# Altium schematic symbol library ICs.SchLib: 34 symbols
Pins are listed as number, name and electrical type; pins without a type are passive.

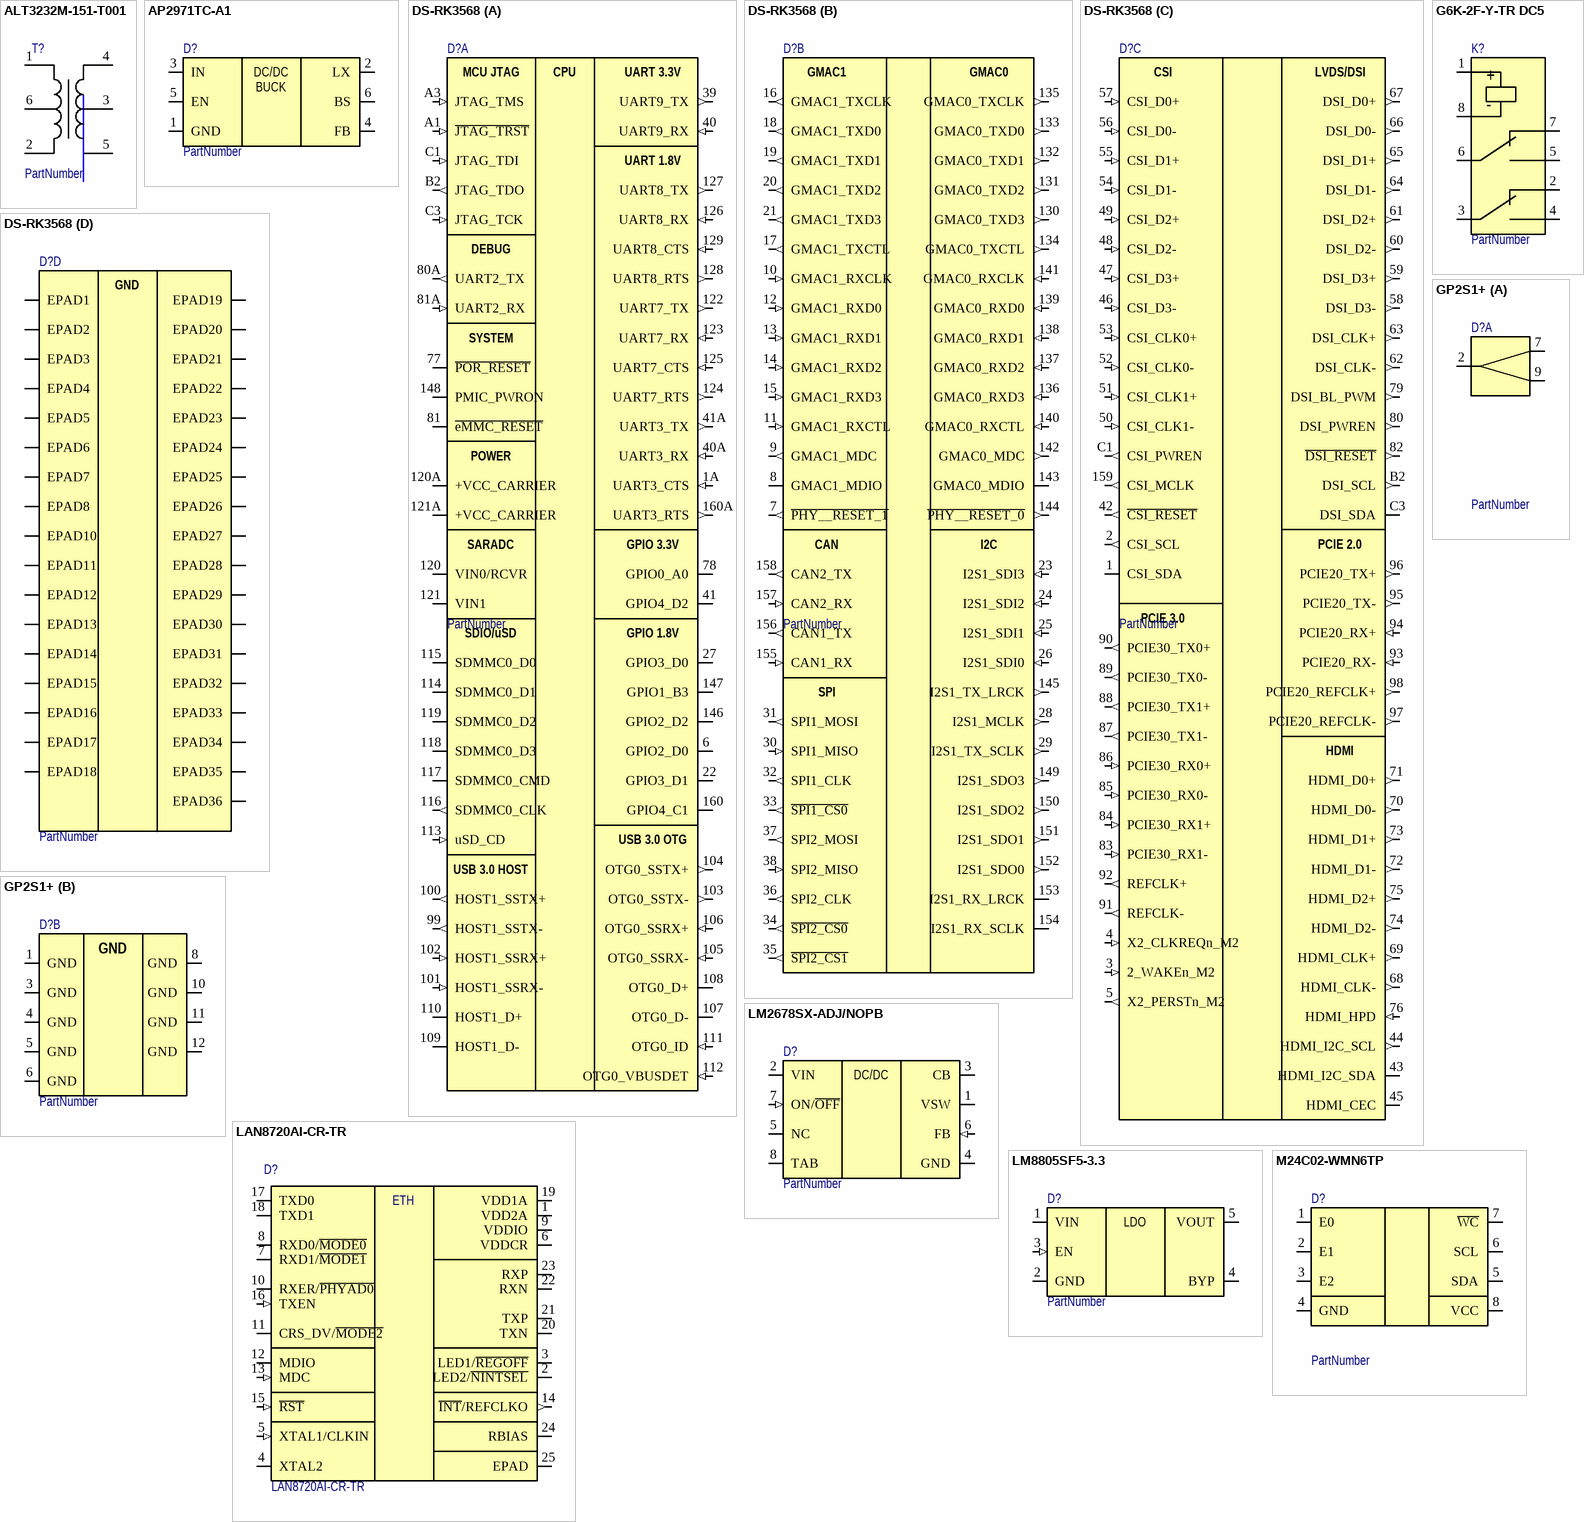
[diagram p0: symbols ALT3232M-151-T001 to M24C02-WMN6TP]

## ALT3232M-151-T001
designator T?  (value not drawn)
PartNumber: PartNumber
pins: 1, 2, 3, 4, 5, 6

## AP2971TC-A1
designator D?  (value not drawn)
PartNumber: PartNumber
pins: 1 GND, 2 LX, 3 IN, 4 FB, 5 EN, 6 BS
text: DC/DC; BUCK

## DS-RK3568
designator D?  (value not drawn)
PartNumber: PartNumber
part A pins: 1A UART3_CTS (in), 6 GPIO2_D0 (io), 22 GPIO3_D1 (io), 27 GPIO3_D0 (io), 39 UART9_TX (out), 40 UART9_RX (in), 40A UART3_RX (in), 41 GPIO4_D2 (io), 41A UART3_TX (out), 77 ~{POR_RESET}, 78 GPIO0_A0 (io), 80A UART2_TX (out), 81 ~{eMMC_RESET}, 81A UART2_RX (in), 99 HOST1_SSTX- (out), 100 HOST1_SSTX+ (out), 101 HOST1_SSRX- (in), 102 HOST1_SSRX+ (in), 103 OTG0_SSTX- (out), 104 OTG0_SSTX+ (out), 105 OTG0_SSRX- (in), 106 OTG0_SSRX+ (in), 107 OTG0_D- (io), 108 OTG0_D+ (io), 109 HOST1_D- (io), 110 HOST1_D+ (io), 111 OTG0_ID (in), 112 OTG0_VBUSDET (in), 113 uSD_CD (in), 114 SDMMC0_D1 (io), 115 SDMMC0_D0 (io), 116 SDMMC0_CLK (out), 117 SDMMC0_CMD (io), 118 SDMMC0_D3 (io), 119 SDMMC0_D2 (io), 120 VIN0/RCVR, 120A +VCC_CARRIER (power), 121 VIN1, 121A +VCC_CARRIER (power), 122 UART7_TX (out), 123 UART7_RX (in), 124 UART7_RTS (out), 125 UART7_CTS (in), 126 UART8_RX (in), 127 UART8_TX (out), 128 UART8_RTS (out), 129 UART8_CTS (in), 146 GPIO2_D2 (io), 147 GPIO1_B3 (io), 148 PMIC_PWRON, 160 GPIO4_C1 (io), 160A UART3_RTS (out), A1 ~{JTAG_TRST} (in), A3 JTAG_TMS (in), B2 JTAG_TDO (out), C1 JTAG_TDI (in), C3 JTAG_TCK (in)
part B pins: 7 ~{PHY__RESET_1} (out), 8 GMAC1_MDIO (io), 9 GMAC1_MDC (out), 10 GMAC1_RXCLK (in), 11 GMAC1_RXCTL (in), 12 GMAC1_RXD0 (in), 13 GMAC1_RXD1 (in), 14 GMAC1_RXD2 (in), 15 GMAC1_RXD3 (in), 16 GMAC1_TXCLK (out), 17 GMAC1_TXCTL (out), 18 GMAC1_TXD0 (out), 19 GMAC1_TXD1 (out), 20 GMAC1_TXD2 (out), 21 GMAC1_TXD3 (out), 23 I2S1_SDI3 (in), 24 I2S1_SDI2 (in), 25 I2S1_SDI1 (in), 26 I2S1_SDI0 (in), 28 I2S1_MCLK (out), 29 I2S1_TX_SCLK (out), 30 SPI1_MISO (in), 31 SPI1_MOSI (out), 32 SPI1_CLK (out), 33 ~{SPI1_CS0} (out), 34 ~{SPI2_CS0} (out), 35 ~{SPI2_CS1} (out), 36 SPI2_CLK (out), 37 SPI2_MOSI (out), 38 SPI2_MISO (in), 130 GMAC0_TXD3 (out), 131 GMAC0_TXD2 (out), 132 GMAC0_TXD1 (out), 133 GMAC0_TXD0 (out), 134 GMAC0_TXCTL (out), 135 GMAC0_TXCLK (out), 136 GMAC0_RXD3 (in), 137 GMAC0_RXD2 (in), 138 GMAC0_RXD1 (in), 139 GMAC0_RXD0 (in), 140 GMAC0_RXCTL (in), 141 GMAC0_RXCLK (in), 142 GMAC0_MDC (out), 143 GMAC0_MDIO (io), 144 ~{PHY__RESET_0} (out), 145 I2S1_TX_LRCK (out), 149 I2S1_SDO3 (out), 150 I2S1_SDO2 (out), 151 I2S1_SDO1 (out), 152 I2S1_SDO0 (out), 153 I2S1_RX_LRCK, 154 I2S1_RX_SCLK, 155 CAN1_RX (in), 156 CAN1_TX (out), 157 CAN2_RX (in), 158 CAN2_TX (out)
part C pins: 1 CSI_SDA (io), 2 CSI_SCL (out), 3 2_WAKEn_M2 (in), 4 X2_CLKREQn_M2 (in), 5 X2_PERSTn_M2 (out), 42 ~{CSI_RESET} (out), 43 HDMI_I2C_SDA (io), 44 HDMI_I2C_SCL (out), 45 HDMI_CEC (io), 46 CSI_D3- (in), 47 CSI_D3+ (in), 48 CSI_D2- (in), 49 CSI_D2+ (in), 50 CSI_CLK1- (in), 51 CSI_CLK1+ (in), 52 CSI_CLK0- (in), 53 CSI_CLK0+ (in), 54 CSI_D1- (in), 55 CSI_D1+ (in), 56 CSI_D0- (in), 57 CSI_D0+ (in), 58 DSI_D3- (out), 59 DSI_D3+ (out), 60 DSI_D2- (out), 61 DSI_D2+ (out), 62 DSI_CLK- (out), 63 DSI_CLK+ (out), 64 DSI_D1- (out), 65 DSI_D1+ (out), 66 DSI_D0- (out), 67 DSI_D0+ (out), 68 HDMI_CLK- (out), 69 HDMI_CLK+ (out), 70 HDMI_D0- (out), 71 HDMI_D0+ (out), 72 HDMI_D1- (out), 73 HDMI_D1+ (out), 74 HDMI_D2- (out), 75 HDMI_D2+ (out), 76 HDMI_HPD (in), 79 DSI_BL_PWM (out), 80 DSI_PWREN (out), 82 ~{DSI_RESET} (out), 83 PCIE30_RX1- (in), 84 PCIE30_RX1+ (in), 85 PCIE30_RX0- (in), 86 PCIE30_RX0+ (in), 87 PCIE30_TX1- (out), 88 PCIE30_TX1+ (out), 89 PCIE30_TX0- (out), 90 PCIE30_TX0+ (out), 91 REFCLK- (out), 92 REFCLK+ (out), 93 PCIE20_RX- (in), 94 PCIE20_RX+ (in), 95 PCIE20_TX- (out), 96 PCIE20_TX+ (out), 97 PCIE20_REFCLK- (out), 98 PCIE20_REFCLK+ (out), 159 CSI_MCLK (out), B2 DSI_SCL (out), C1 CSI_PWREN (out), C3 DSI_SDA (io)
part D pins: 161 EPAD1 (power), 161 EPAD2 (power), 161 EPAD3 (power), 161 EPAD4 (power), 161 EPAD5 (power), 161 EPAD6 (power), 161 EPAD7 (power), 161 EPAD8 (power), 161 EPAD10 (power), 161 EPAD11 (power), 161 EPAD12 (power), 161 EPAD13 (power), 162 EPAD14 (power), 163 EPAD15 (power), 164 EPAD16 (power), 165 EPAD17 (power), 166 EPAD18 (power), 167 EPAD19 (power), 168 EPAD20 (power), 169 EPAD21 (power), 170 EPAD22 (power), 171 EPAD23 (power), 172 EPAD24 (power), 173 EPAD25 (power), 174 EPAD26 (power), 175 EPAD27 (power), 176 EPAD28 (power), 177 EPAD29 (power), 178 EPAD30 (power), 179 EPAD31 (power), 180 EPAD32 (power), 181 EPAD33 (power), 182 EPAD34 (power), 183 EPAD35 (power), 184 EPAD36 (power)
part A text: MCU JTAG; CPU; UART 3.3V; UART 1.8V; DEBUG; SYSTEM; POWER; SARADC; GPIO 3.3V; SDIO/uSD; GPIO 1.8V; USB 3.0 OTG; USB 3.0 HOST
part B text: GMAC1; GMAC0; CAN; I2C; SPI
part C text: CSI; LVDS/DSI; PCIE 2.0; PCIE 3.0; HDMI
part D text: GND

## G6K-2F-Y-TR DC5
designator K?  (value not drawn)
PartNumber: PartNumber
pins: 1 +, 2, 3, 4, 5, 6, 7, 8 -

## GP2S1+
designator D?  (value not drawn)
PartNumber: PartNumber
part A pins: 2 Port SUM, 7 Port 1, 9 Port 2
part B pins: 1 GND (power), 3 GND (power), 4 GND (power), 5 GND (power), 6 GND (power), 8 GND (power), 10 GND (power), 11 GND (power), 12 GND (power)

## LAN8720AI-CR-TR
designator D?
pins: 1 VDD2A (power) "+3.3V Analog Port Power to Channel 2 and the internal regulator.", 2 LED2/~{NINTSEL} (io), 3 LED1/~{REGOFF} (io), 4 XTAL2 "External crystal output", 5 XTAL1/CLKIN (in), 6 VDDCR (power) "Supplied by the on-chip regulator unless configured for regulator off mode via the REGOFF configuration strap.", 7 RXD1/~{MODE1} (io), 8 RXD0/~{MODE0} (io), 9 VDDIO (power) "+1.6V to +3.6V variable I/O power", 10 RXER/~{PHYAD0} (io), 11 CRS_DV/~{MODE2} (io), 12 MDIO (io) "Serial Management Interface data input/output", 13 MDC (in) "Serial Management Interface clock", 14 ~{INT}/REFCLKO (out), 15 ~{RST} (in) "System reset. This signal is active low.", 16 TXEN (in) "Indicates that valid transmission data is presenton TXD[1:0].", 17 TXD0 (io) "The MAC transmits data to the transceiver usingthis signal.", 18 TXD1 (io) "The MAC transmits data to the transceiver usingthis signal.", 19 VDD1A (power) "+3.3V Analog Port Power to Channel 1", 20 TXN (io) "Transmit/Receive Negative Channel 1", 21 TXP (io) "Transmit/Receive Positive Channel 1", 22 RXN (io) "Transmit/Receive Negative Channel 2", 23 RXP (io) "Transmit/Receive Positive Channel 2", 24 RBIAS "This pin requires connection of a 12.1k ohm (1%) resistor to ground.", 25 EPAD (power) "Exposed pad (VSS) on bottom of package must be connected to ground"
text: ETH

## LM2678SX-ADJ/NOPB
designator D?  (value not drawn)
PartNumber: PartNumber
pins: 1 VSW (power), 2 VIN (power), 3 CB, 4 GND (power), 5 NC, 6 FB (in), 7 ON/~{OFF} (in), 8 TAB (power)
text: DC/DC

## LM8805SF5-3.3
designator D?  (value not drawn)
PartNumber: PartNumber
pins: 1 VIN (power), 2 GND (power), 3 EN (in), 4 BYP (power), 5 VOUT (power)
text: LDO

## M24C02-WMN6TP
designator D?  (value not drawn)
PartNumber: PartNumber
pins: 1 E0, 2 E1, 3 E2, 4 GND, 5 SDA, 6 SCL, 7 ~{WC}, 8 VCC

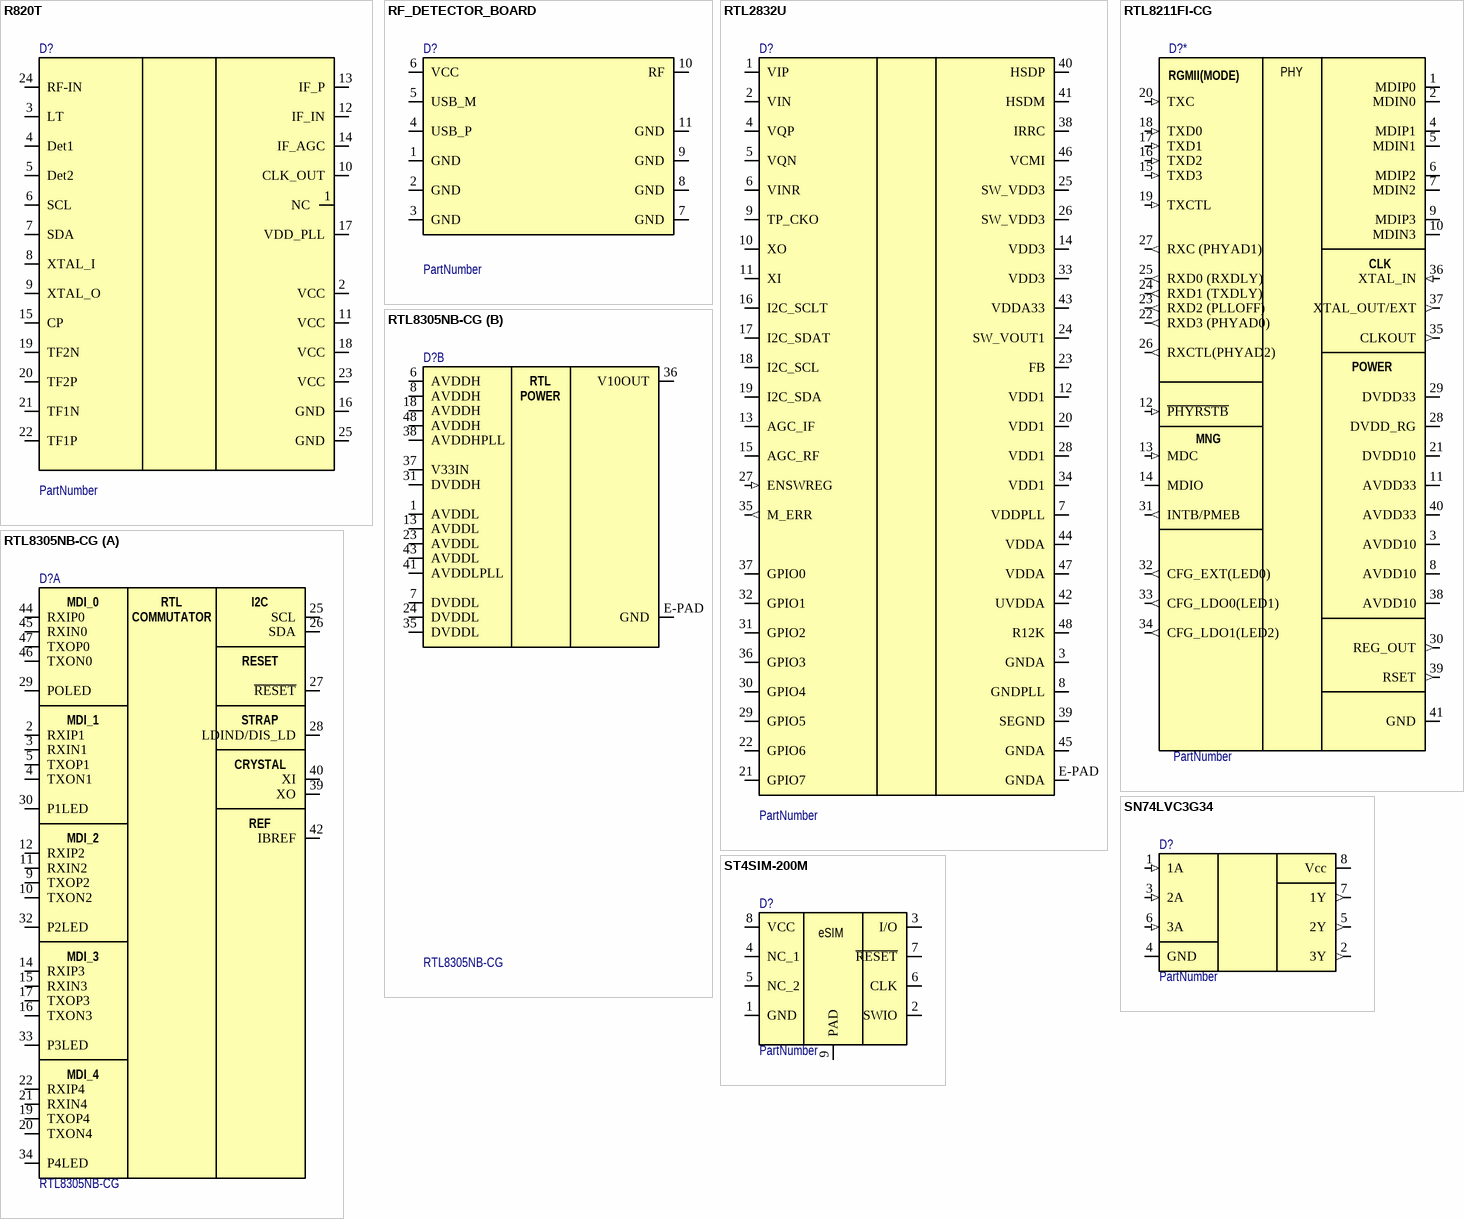
[diagram p1: symbols R820T to ST4SIM-200M]

## R820T
designator D?  (value not drawn)
PartNumber: PartNumber
pins: 1 NC (hiz), 2 VCC (power), 3 LT, 4 Det1, 5 Det2, 6 SCL (io), 7 SDA (io), 8 XTAL_I, 9 XTAL_O, 10 CLK_OUT, 11 VCC (power), 12 IF_IN, 13 IF_P, 14 IF_AGC, 15 CP, 16 GND (power), 17 VDD_PLL (power), 18 VCC (power), 19 TF2N, 20 TF2P, 21 TF1N, 22 TF1P, 23 VCC (power), 24 RF-IN, 25 GND (power)

## RF_DETECTOR_BOARD
designator D?  (value not drawn)
PartNumber: PartNumber
pins: 1 GND (power), 2 GND (power), 3 GND (power), 4 USB_P, 5 USB_M, 6 VCC (power), 7 GND (power), 8 GND (power), 9 GND (power), 10 RF, 11 GND (power)

## RTL2832U
designator D?  (value not drawn)
PartNumber: PartNumber
pins: 1 VIP, 2 VIN, 3 GNDA (power), 4 VQP, 5 VQN, 6 VINR, 7 VDDPLL (power), 8 GNDPLL (power), 9 TP_CKO, 10 XO, 11 XI, 12 VDD1 (power), 13 AGC_IF (oc), 14 VDD3 (power), 15 AGC_RF (oc), 16 I2C_SCLT (io), 17 I2C_SDAT (io), 18 I2C_SCL (io), 19 I2C_SDA (io), 20 VDD1 (power), 21 GPIO7 (io), 22 GPIO6 (io), 23 FB, 24 SW_VOUT1, 25 SW_VDD3 (power), 26 SW_VDD3 (power), 27 ENSWREG (in), 28 VDD1 (power), 29 GPIO5 (io), 30 GPIO4 (io), 31 GPIO2 (io), 32 GPIO1 (io), 33 VDD3 (power), 34 VDD1 (power), 35 M_ERR (out), 36 GPIO3 (io), 37 GPIO0 (io), 38 IRRC, 39 SEGND (power), 40 HSDP (io), 41 HSDM (io), 42 UVDDA (power), 43 VDDA33 (power), 44 VDDA (power), 45 GNDA (power), 46 VCMI, 47 VDDA (power), 48 R12K, E-PAD GNDA (power)

## RTL8211FI-CG
designator D?*  (value not drawn)
PartNumber: PartNumber
pins: 1 MDIP0 (io) "Transceiver Interface", 2 MDIN0 (io) "Transceiver Interface", 3 AVDD10 (power) "Analog Power. 1.0V", 4 MDIP1 (io) "Transceiver Interface", 5 MDIN1 (io) "Transceiver Interface", 6 MDIP2 (io) "Transceiver Interface", 7 MDIN2 (io) "Transceiver Interface", 8 AVDD10 (power) "Analog Power. 1.0V", 9 MDIP3 (io) "Transceiver Interface", 10 MDIN3 (io) "Transceiver Interface", 11 AVDD33 (power) "Analog Power. 3.3V", 12 ~{PHYRSTB} (in) "System reset. This signal is active low.", 13 MDC (in) "Management Data Clock", 14 MDIO (io) "Serial Management Interface data input/output", 15 TXD3 (in) "Data is transmitted from MAC to PHY", 16 TXD2 (in) "Data is transmitted from MAC to PHY", 17 TXD1 (in) "Data is transmitted from MAC to PHY", 18 TXD0 (in) "Data is transmitted from MAC to PHY", 19 TXCTL (in) "Transmit Control Signal from the MAC", 20 TXC (in) "The transmit reference clock", 21 DVDD10 (power) "Digital Core Power. 1.0V", 22 RXD3 (PHYAD0) (out) "Data is transmitted from PHY to MAC", 23 RXD2 (PLLOFF) (out) "Data is transmitted from PHY to MAC", 24 RXD1 (TXDLY) (out) "Data is transmitted from PHY to MAC", 25 RXD0 (RXDLY) (out) "Data is transmitted from PHY to MAC", 26 RXCTL(PHYAD2) (out) "Receive Control Signal to the MAC", 27 RXC (PHYAD1) (out) "The continuous receive reference clock", 28 DVDD_RG (power) "Digital RGMII I/O Pad Power", 29 DVDD33 (power) "Digital non-RGMII I/O Power. 3.3V", 30 REG_OUT (out) "Switching Regulator 1.0V Output", 31 INTB/PMEB (out), 32 CFG_EXT(LED0) (out) "I/O Pad External Power Source Mode Configuration", 33 CFG_LDO0(LED1) (out) "CFG_LDO[1:0]", 34 CFG_LDO1(LED2) (out) "CFG_LDO[1:0]", 35 CLKOUT (out) "125/25MHz Reference Clock Generated from Internal PLL.", 36 XTAL_IN (in) "25MHz Crystal Input.", 37 XTAL_OUT/EXT (out) "25MHz Crystal Output.", 38 AVDD10 (power) "Analog Power. 1.0V", 39 RSET (out) "Reference (External Resistor Reference)", 40 AVDD33 (power) "Analog Power. 3.3V", 41 GND (power) "Analog Power. 1.0V"
text: RGMII(MODE); PHY; CLK; POWER; MNG

## RTL8305NB-CG
designator D?
part A pins: 2 RXIP1, 3 RXIN1, 4 TXON1, 5 TXOP1, 9 TXOP2, 10 TXON2, 11 RXIN2, 12 RXIP2, 14 RXIP3, 15 RXIN3, 16 TXON3, 17 TXOP3, 19 TXOP4, 20 TXON4, 21 RXIN4, 22 RXIP4, 25 SCL, 26 SDA, 27 ~{RESET}, 28 LDIND/DIS_LD, 29 POLED, 30 P1LED, 32 P2LED, 33 P3LED, 34 P4LED, 39 XO, 40 XI, 42 IBREF, 44 RXIP0, 45 RXIN0, 46 TXON0, 47 TXOP0
part B pins: 1 AVDDL, 6 AVDDH, 7 DVDDL, 8 AVDDH, 13 AVDDL, 18 AVDDH, 23 AVDDL, 24 DVDDL, 31 DVDDH, 35 DVDDL, 36 V10OUT, 37 V33IN, 38 AVDDHPLL, 41 AVDDLPLL, 43 AVDDL, 48 AVDDH, E-PAD GND
part A text: MDI_0; RTL; I2C; COMMUTATOR; RESET; MDI_1; STRAP; CRYSTAL; REF; MDI_2; MDI_3; MDI_4
part B text: RTL; POWER

## SN74LVC3G34
designator D?  (value not drawn)
Triple Buffer Gate; PartNumber: PartNumber
pins: 1 1A (in), 2 3Y (out), 3 2A (in), 4 GND (power), 5 2Y (out), 6 3A (in), 7 1Y (out), 8 Vcc (power)

## ST4SIM-200M
designator D?  (value not drawn)
PartNumber: PartNumber
pins: 1 GND, 2 SWIO, 3 I/O, 4 NC_1, 5 NC_2, 6 CLK, 7 ~{RESET}, 8 VCC, 9 PAD
text: eSIM

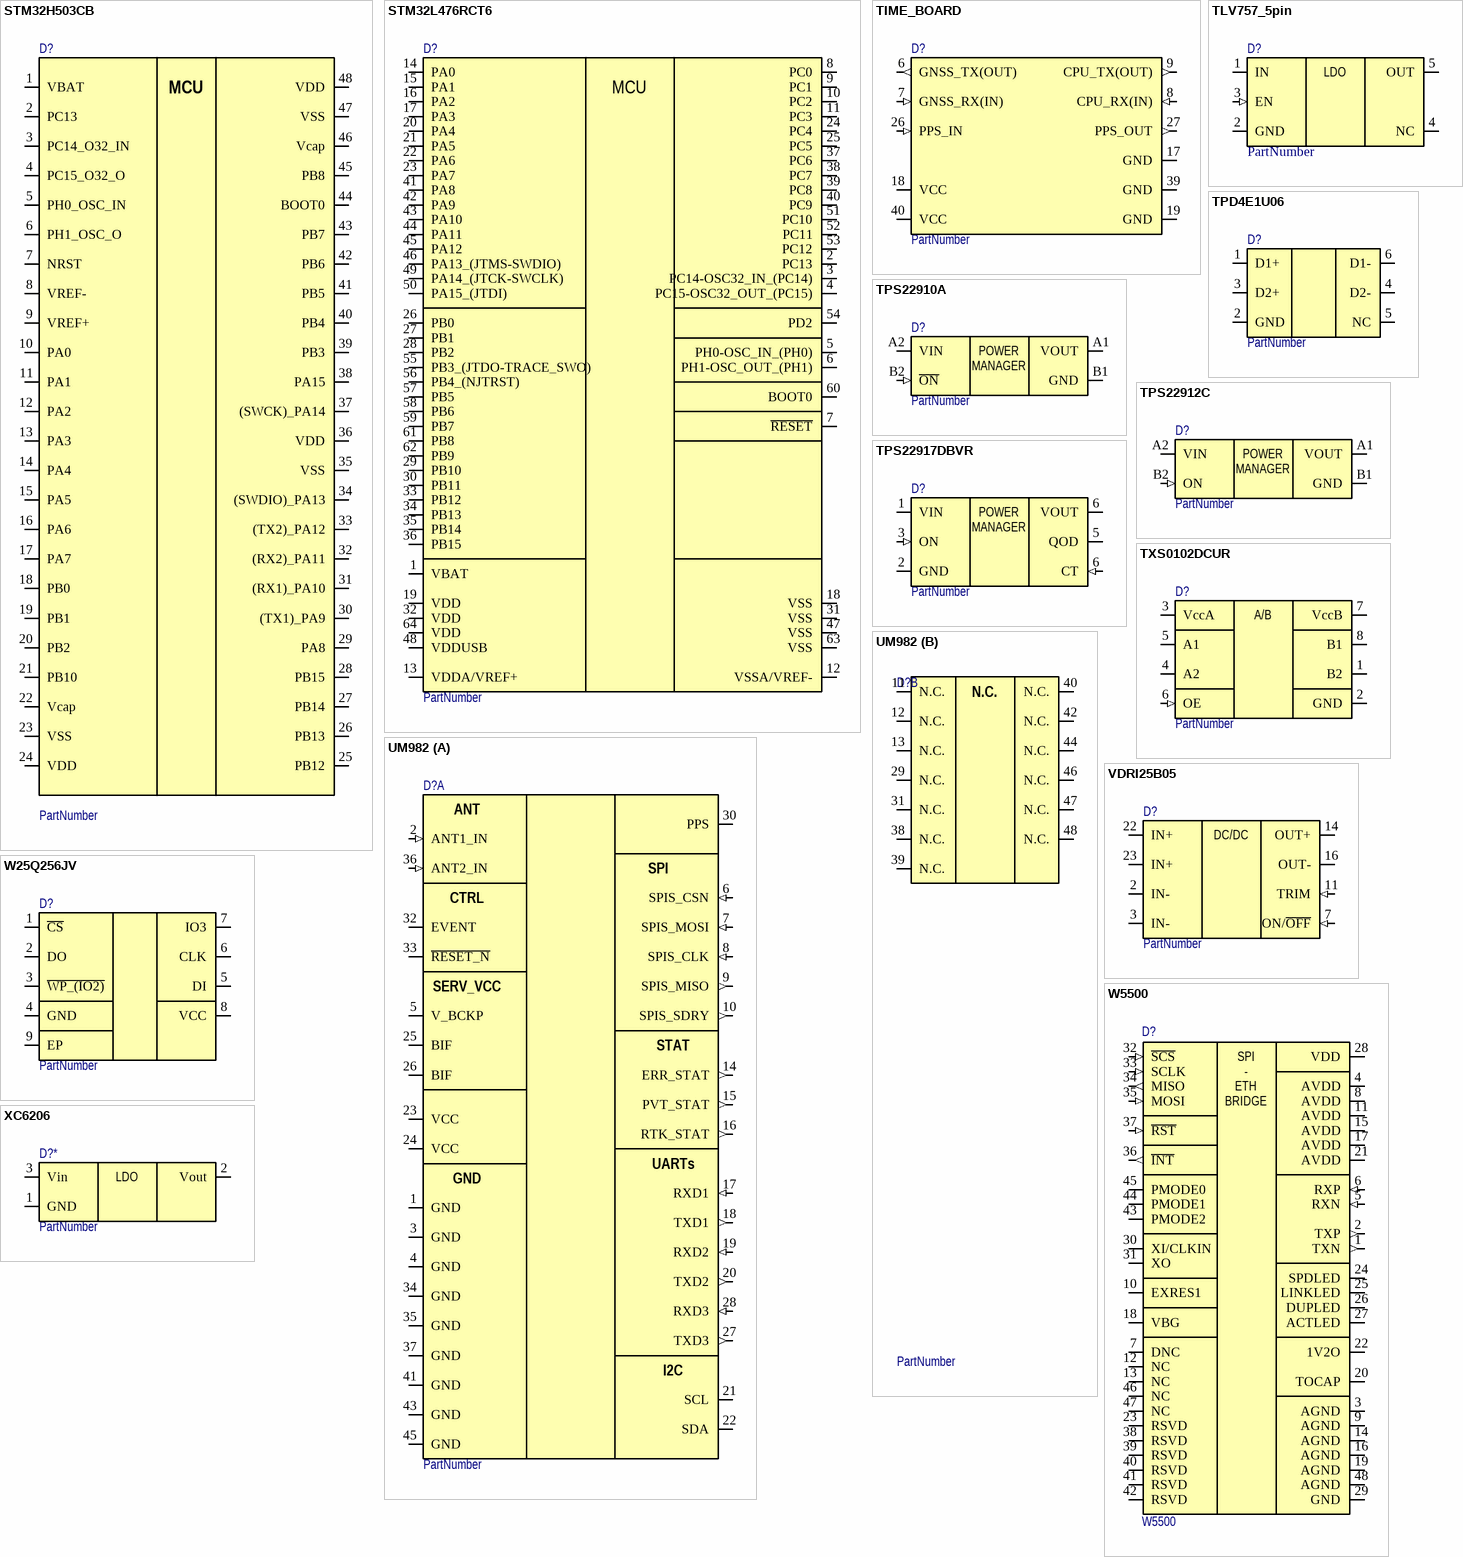
[diagram p2: symbols STM32H503CB to XC6206]

## STM32H503CB
designator D?  (value not drawn)
PartNumber: PartNumber
pins: 1 VBAT (power), 2 PC13 (io), 3 PC14_O32_IN (io), 4 PC15_O32_O (io), 5 PH0_OSC_IN (io), 6 PH1_OSC_O (io), 7 NRST, 8 VREF- (power), 9 VREF+ (power), 10 PA0 (io), 11 PA1 (io), 12 PA2 (io), 13 PA3 (io), 14 PA4 (io), 15 PA5 (io), 16 PA6 (io), 17 PA7 (io), 18 PB0 (io), 19 PB1 (io), 20 PB2, 21 PB10 (io), 22 Vcap (power), 23 VSS (power), 24 VDD, 25 PB12 (io), 26 PB13 (io), 27 PB14 (io), 28 PB15 (io), 29 PA8 (io), 30 (TX1)_PA9 (io), 31 (RX1)_PA10 (io), 32 (RX2)_PA11 (io), 33 (TX2)_PA12 (io), 34 (SWDIO)_PA13 (io), 35 VSS (power), 36 VDD (power), 37 (SWCK)_PA14 (io), 38 PA15 (io), 39 PB3 (io), 40 PB4 (io), 41 PB5 (io), 42 PB6 (io), 43 PB7 (io), 44 BOOT0, 45 PB8 (io), 46 Vcap (power), 47 VSS (power), 48 VDD (power)
text: MCU

## STM32L476RCT6
designator D?  (value not drawn)
Ultra-low-power ARM® Cortex®-M4 32-bit MCU+FPU,100DMIPS, up to 1MB Flash, 128 KB SRAM, USB OTG FS, LCD, analog, audio; PartNumber: PartNumber
pins: 1 VBAT (oe), 2 PC13, 3 PC14-OSC32_IN_(PC14), 4 PC15-OSC32_OUT_(PC15), 5 PH0-OSC_IN_(PH0), 6 PH1-OSC_OUT_(PH1), 7 ~{RESET}, 8 PC0, 9 PC1, 10 PC2, 11 PC3, 12 VSSA/VREF-, 13 VDDA/VREF+ (oe), 14 PA0, 15 PA1, 16 PA2, 17 PA3, 18 VSS, 19 VDD (oe), 20 PA4, 21 PA5, 22 PA6, 23 PA7, 24 PC4, 25 PC5, 26 PB0, 27 PB1, 28 PB2, 29 PB10, 30 PB11, 31 VSS, 32 VDD (oe), 33 PB12, 34 PB13, 35 PB14, 36 PB15, 37 PC6, 38 PC7, 39 PC8, 40 PC9, 41 PA8, 42 PA9, 43 PA10, 44 PA11, 45 PA12, 46 PA13_(JTMS-SWDIO), 47 VSS, 48 VDDUSB (oe), 49 PA14_(JTCK-SWCLK), 50 PA15_(JTDI), 51 PC10, 52 PC11, 53 PC12, 54 PD2, 55 PB3_(JTDO-TRACE_SWO), 56 PB4_(NJTRST), 57 PB5, 58 PB6, 59 PB7, 60 BOOT0, 61 PB8, 62 PB9, 63 VSS, 64 VDD (oe)
text: MCU

## TIME_BOARD
designator D?  (value not drawn)
PartNumber: PartNumber
pins: 6 GNSS_TX(OUT) (out), 7 GNSS_RX(IN) (in), 8 CPU_RX(IN) (in), 9 CPU_TX(OUT) (out), 17 GND (power), 18 VCC, 19 GND (power), 26 PPS_IN (in), 27 PPS_OUT (out), 39 GND (power), 40 VCC (power)

## TLV757_5pin
designator D?  (value not drawn)
PartNumber: PartNumber
pins: 1 IN (power), 2 GND (power), 3 EN (in), 4 NC, 5 OUT (power)
text: LDO

## TPD4E1U06
designator D?  (value not drawn)
PartNumber: PartNumber
pins: 1 D1+ (io), 2 GND (power), 3 D2+ (io), 4 D2- (io), 5 NC, 6 D1- (io)

## TPS22910A
designator D?  (value not drawn)
PartNumber: PartNumber
pins: A1 VOUT (power), A2 VIN (power), B1 GND (power), B2 ~{ON} (in)
text: POWER; MANAGER

## TPS22912C
designator D?  (value not drawn)
PartNumber: PartNumber
pins: A1 VOUT (power), A2 VIN (power), B1 GND (power), B2 ON (in)
text: POWER; MANAGER

## TPS22917DBVR
designator D?  (value not drawn)
PartNumber: PartNumber
pins: 1 VIN (power), 2 GND (power), 3 ON (in), 5 QOD (power), 6 VOUT, 6 CT (in)
text: POWER; MANAGER

## TXS0102DCUR
designator D?  (value not drawn)
PartNumber: PartNumber
pins: 1 B2 (io), 2 GND (power), 3 VccA (power), 4 A2 (io), 5 A1 (io), 6 OE (in), 7 VccB (power), 8 B1 (io)
text: A/B

## UM982
designator D?  (value not drawn)
PartNumber: PartNumber
part A pins: 1 GND (power), 2 ANT1_IN (in), 3 GND (power), 4 GND (power), 5 V_BCKP (power), 6 SPIS_CSN (in), 7 SPIS_MOSI (in), 8 SPIS_CLK (in), 9 SPIS_MISO (out), 10 SPIS_SDRY (out), 14 ERR_STAT (out), 15 PVT_STAT (out), 16 RTK_STAT (out), 17 RXD1 (in), 18 TXD1 (out), 19 RXD2 (in), 20 TXD2 (out), 21 SCL, 22 SDA, 23 VCC (power), 24 VCC (power), 25 BIF, 26 BIF, 27 TXD3 (out), 28 RXD3 (in), 30 PPS, 32 EVENT, 33 ~{RESET_N}, 34 GND (power), 35 GND (power), 36 ANT2_IN (in), 37 GND (power), 41 GND (power), 43 GND (power), 45 GND (power)
part B pins: 11 N.C., 12 N.C., 13 N.C., 29 N.C., 31 N.C., 38 N.C., 39 N.C., 40 N.C., 42 N.C., 44 N.C., 46 N.C., 47 N.C., 48 N.C.
part A text: ANT; SPI; CTRL; SERV_VCC; STAT; UARTs; I2C

## VDRI25B05
designator D?  (value not drawn)
PartNumber: PartNumber
footprint VOLTBRICKS_VDRI25(15)-DIP24
pins: 2 IN- (power), 3 IN-, 7 ON/~{OFF} (in), 11 TRIM (in), 14 OUT+ (power), 16 OUT- (power), 22 IN+ (power), 23 IN+ (power)
text: DC/DC

## W25Q256JV
designator D?  (value not drawn)
PartNumber: PartNumber
pins: 1 ~{CS}, 2 DO, 3 ~{WP_(IO2)}, 4 GND, 5 DI, 6 CLK, 7 IO3, 8 VCC, 9 EP

## W5500
designator D?
Ethernet CTLR Single Chip 10Mbps/100Mbps 3.3V 48-Pin LQFP Reel; Manufacturer: WIZnet; NIIAS_Des: Ethernet CTLR Single Chip 10Mbps/100Mbps 3.3V 48-Pin LQFP Reel; Case: LQFP-48; Component Type: ICs; PartNumber: W5500
footprint WIZNET_LQFP48 (Quad Flat Pack (QFP), 0.50 mm pitch; square, 12 pin X 12 pin, 7.00 mm L X 7.00 mm W X 1.60 mm H body)
pins: 1 TXN (out), 2 TXP (out), 3 AGND, 4 AVDD, 5 RXN (in), 6 RXP (in), 7 DNC, 8 AVDD, 9 AGND, 10 EXRES1, 11 AVDD, 12 NC, 13 NC, 14 AGND, 15 AVDD, 16 AGND, 17 AVDD, 18 VBG, 19 AGND, 20 TOCAP, 21 AVDD, 22 1V2O, 23 RSVD, 24 SPDLED, 25 LINKLED, 26 DUPLED, 27 ACTLED, 28 VDD, 29 GND, 30 XI/CLKIN, 31 XO, 32 ~{SCS} (in), 33 SCLK (in), 34 MISO (out), 35 MOSI (in), 36 ~{INT} (out), 37 ~{RST} (in), 38 RSVD, 39 RSVD, 40 RSVD, 41 RSVD, 42 RSVD, 43 PMODE2, 44 PMODE1, 45 PMODE0, 46 NC, 47 NC, 48 AGND
text: SPI; -; ETH; BRIDGE

## XC6206
designator D?*  (value not drawn)
CMOS LDO voltage regulator; PartNumber: PartNumber
pins: 1 GND (power), 2 Vout (power), 3 Vin (power)
text: LDO

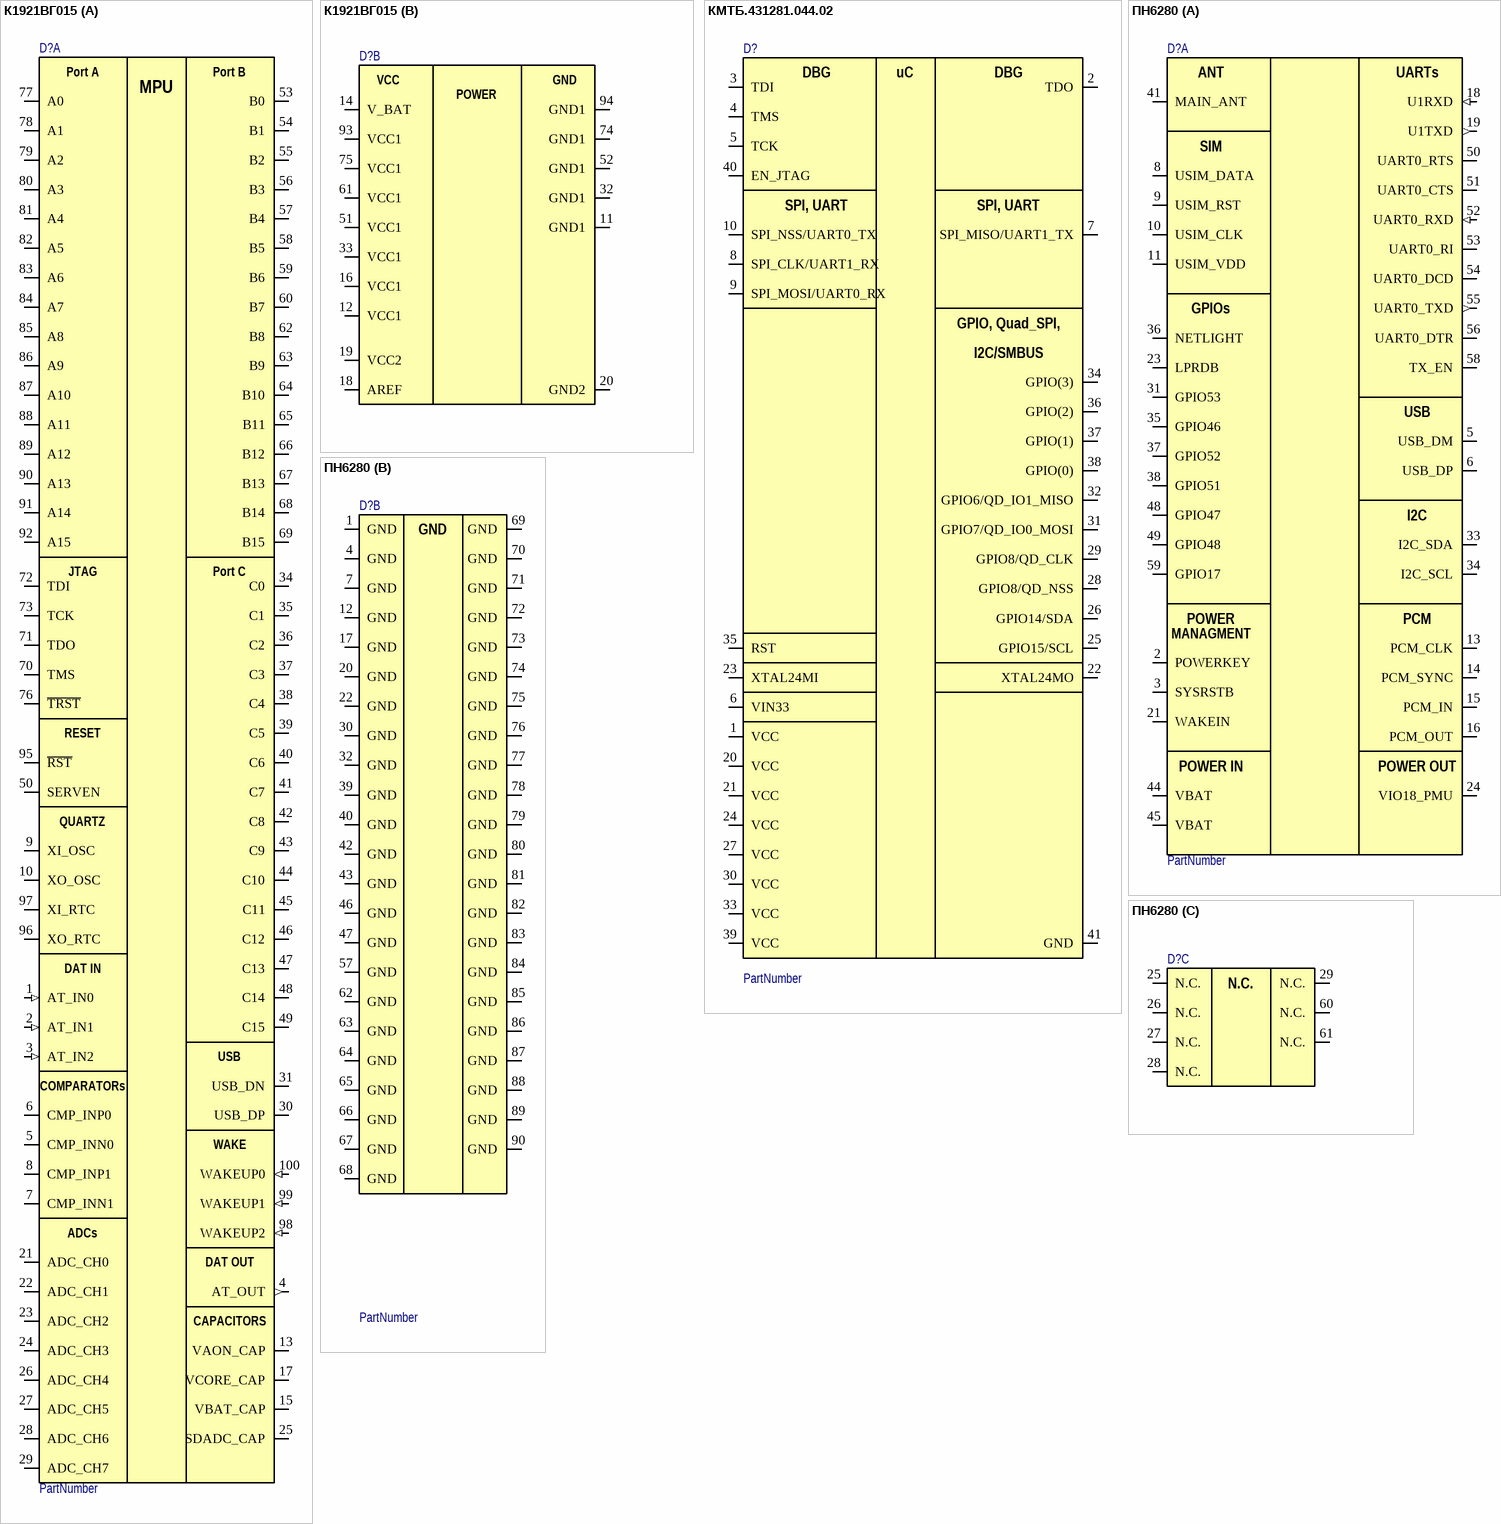
[diagram p3: symbols К1921ВГ015 to ПН6280]

## К1921ВГ015
designator D?  (value not drawn)
PartNumber: PartNumber
part A pins: 1 AT_IN0 (in), 2 AT_IN1 (in), 3 AT_IN2 (in), 4 AT_OUT (out), 5 CMP_INN0, 6 CMP_INP0, 7 CMP_INN1, 8 CMP_INP1, 9 XI_OSC, 10 XO_OSC, 13 VAON_CAP, 15 VBAT_CAP, 17 VCORE_CAP, 21 ADC_CH0, 22 ADC_CH1, 23 ADC_CH2, 24 ADC_CH3, 25 SDADC_CAP, 26 ADC_CH4, 27 ADC_CH5, 28 ADC_CH6, 29 ADC_CH7, 30 USB_DP (io), 31 USB_DN (io), 34 C0 (io), 35 C1 (io), 36 C2 (io), 37 C3 (io), 38 C4 (io), 39 C5 (io), 40 C6 (io), 41 C7 (io), 42 C8 (io), 43 C9 (io), 44 C10 (io), 45 C11 (io), 46 C12 (io), 47 C13 (io), 48 C14 (io), 49 C15 (io), 50 SERVEN, 53 B0 (io), 54 B1 (io), 55 B2 (io), 56 B3 (io), 57 B4 (io), 58 B5 (io), 59 B6 (io), 60 B7 (io), 62 B8 (io), 63 B9 (io), 64 B10 (io), 65 B11 (io), 66 B12 (io), 67 B13 (io), 68 B14 (io), 69 B15 (io), 70 TMS, 71 TDO, 72 TDI, 73 TCK, 76 ~{TRST}, 77 A0 (io), 78 A1 (io), 79 A2 (io), 80 A3 (io), 81 A4 (io), 82 A5 (io), 83 A6 (io), 84 A7 (io), 85 A8 (io), 86 A9 (io), 87 A10 (io), 88 A11 (io), 89 A12 (io), 90 A13 (io), 91 A14 (io), 92 A15 (io), 95 ~{RST}, 96 XO_RTC, 97 XI_RTC, 98 WAKEUP2 (in), 99 WAKEUP1 (in), 100 WAKEUP0 (in)
part B pins: 11 GND1, 12 VCC1, 14 V_BAT, 16 VCC1, 18 AREF, 19 VCC2, 20 GND2, 32 GND1, 33 VCC1, 51 VCC1, 52 GND1, 61 VCC1, 74 GND1, 75 VCC1, 93 VCC1, 94 GND1
part A text: Port A; Port B; MPU; JTAG; Port C; RESET; QUARTZ; DAT IN; USB; COMPARATORs; WAKE; ADCs; DAT OUT; CAPACITORS
part B text: VCC; GND; POWER

## КМТБ.431281.044.02
designator D?  (value not drawn)
PartNumber: PartNumber
pins: 1 VCC, 2 TDO, 3 TDI, 4 TMS, 5 TCK, 6 VIN33, 7 SPI_MISO/UART1_TX, 8 SPI_CLK/UART1_RX, 9 SPI_MOSI/UART0_RX, 10 SPI_NSS/UART0_TX, 20 VCC, 21 VCC, 22 XTAL24MO, 23 XTAL24MI, 24 VCC, 25 GPIO15/SCL, 26 GPIO14/SDA, 27 VCC, 28 GPIO8/QD_NSS, 29 GPIO8/QD_CLK, 30 VCC, 31 GPIO7/QD_IO0_MOSI, 32 GPIO6/QD_IO1_MISO, 33 VCC, 34 GPIO(3), 35 RST, 36 GPIO(2), 37 GPIO(1), 38 GPIO(0), 39 VCC, 40 EN_JTAG, 41 GND
text: DBG; uC; SPI, UART; GPIO, Quad_SPI,; I2C/SMBUS

## ПН6280
designator D?  (value not drawn)
PartNumber: PartNumber
part A pins: 2 POWERKEY, 3 SYSRSTB, 5 USB_DM, 6 USB_DP, 8 USIM_DATA, 9 USIM_RST, 10 USIM_CLK, 11 USIM_VDD, 13 PCM_CLK, 14 PCM_SYNC, 15 PCM_IN, 16 PCM_OUT, 18 U1RXD (in), 19 U1TXD (out), 21 WAKEIN, 23 LPRDB, 24 VIO18_PMU, 31 GPIO53, 33 I2C_SDA, 34 I2C_SCL, 35 GPIO46, 36 NETLIGHT, 37 GPIO52, 38 GPIO51, 41 MAIN_ANT, 44 VBAT, 45 VBAT, 48 GPIO47, 49 GPIO48, 50 UART0_RTS, 51 UART0_CTS, 52 UART0_RXD (in), 53 UART0_RI, 54 UART0_DCD, 55 UART0_TXD (out), 56 UART0_DTR, 58 TX_EN, 59 GPIO17
part B pins: 1 GND, 4 GND, 7 GND, 12 GND, 17 GND, 20 GND, 22 GND, 30 GND, 32 GND, 39 GND, 40 GND, 42 GND, 43 GND, 46 GND, 47 GND, 57 GND, 62 GND, 63 GND, 64 GND, 65 GND, 66 GND, 67 GND, 68 GND, 69 GND, 70 GND, 71 GND, 72 GND, 73 GND, 74 GND, 75 GND, 76 GND, 77 GND, 78 GND, 79 GND, 80 GND, 81 GND, 82 GND, 83 GND, 84 GND, 85 GND, 86 GND, 87 GND, 88 GND, 89 GND, 90 GND
part C pins: 25 N.C., 26 N.C., 27 N.C., 28 N.C., 29 N.C., 60 N.C., 61 N.C.
part A text: ANT; UARTs; SIM; GPIOs; USB; I2C; POWER; PCM; MANAGMENT; POWER IN; POWER OUT

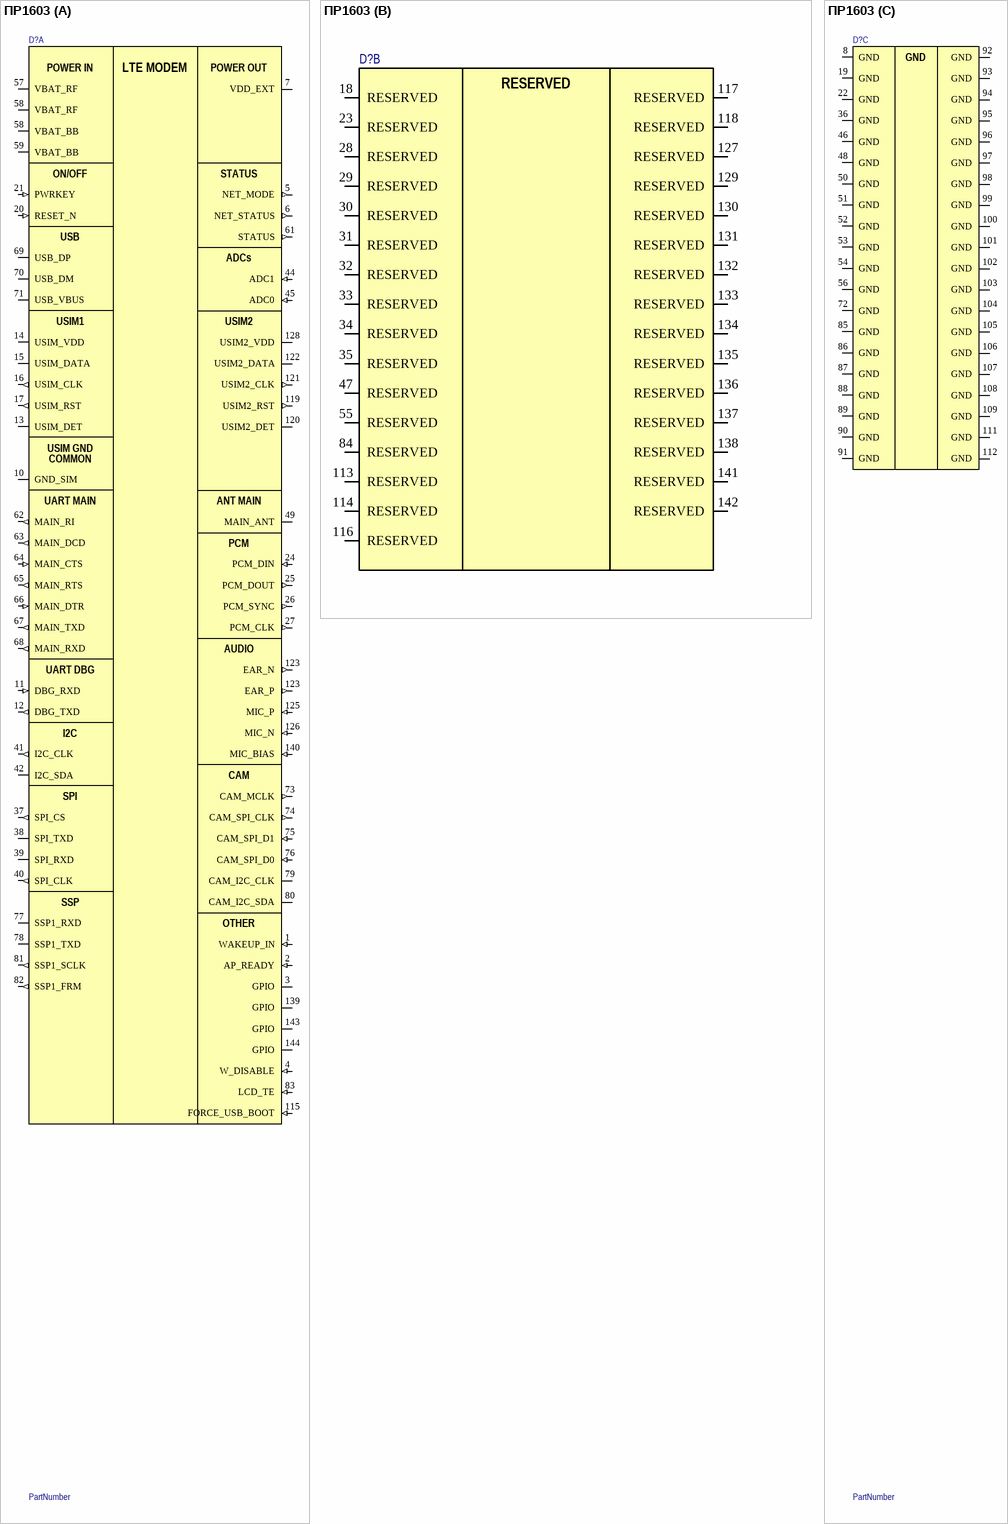
[diagram p4: symbol ПР1603]

## ПР1603
designator D?  (value not drawn)
PartNumber: PartNumber
part A pins: 1 WAKEUP_IN (in), 2 AP_READY (in), 3 GPIO (io), 4 W_DISABLE (in), 5 NET_MODE (out), 6 NET_STATUS (out), 7 VDD_EXT (power), 10 GND_SIM, 11 DBG_RXD (in), 12 DBG_TXD (out), 13 USIM_DET (oc), 14 USIM_VDD (power), 15 USIM_DATA (io), 16 USIM_CLK (out), 17 USIM_RST (out), 20 RESET_N (in), 21 PWRKEY (in), 24 PCM_DIN (in), 25 PCM_DOUT (out), 26 PCM_SYNC (out), 27 PCM_CLK (out), 37 SPI_CS (out), 38 SPI_TXD (io), 39 SPI_RXD (io), 40 SPI_CLK (out), 41 I2C_CLK (out), 42 I2C_SDA (io), 44 ADC1 (in), 45 ADC0 (in), 49 MAIN_ANT (io), 57 VBAT_RF (power), 58 VBAT_RF (power), 58 VBAT_BB (power), 59 VBAT_BB (power), 61 STATUS (out), 62 MAIN_RI (out), 63 MAIN_DCD (out), 64 MAIN_CTS (in), 65 MAIN_RTS (out), 66 MAIN_DTR (in), 67 MAIN_TXD (out), 68 MAIN_RXD (out), 69 USB_DP (io), 70 USB_DM (io), 71 USB_VBUS (power), 73 CAM_MCLK (out), 74 CAM_SPI_CLK (out), 75 CAM_SPI_D1 (in), 76 CAM_SPI_D0 (in), 77 SSP1_RXD (io), 78 SSP1_TXD (io), 79 CAM_I2C_CLK (oc), 80 CAM_I2C_SDA (oc), 81 SSP1_SCLK (out), 82 SSP1_FRM (out), 83 LCD_TE (in), 115 FORCE_USB_BOOT (in), 119 USIM2_RST (out), 120 USIM2_DET (oc), 121 USIM2_CLK (out), 122 USIM2_DATA (io), 123 EAR_N (out), 123 EAR_P (out), 125 MIC_P (in), 126 MIC_N (in), 128 USIM2_VDD (power), 139 GPIO (io), 140 MIC_BIAS (in), 143 GPIO (io), 144 GPIO (io)
part B pins: 18 RESERVED, 23 RESERVED, 28 RESERVED, 29 RESERVED, 30 RESERVED, 31 RESERVED, 32 RESERVED, 33 RESERVED, 34 RESERVED, 35 RESERVED, 47 RESERVED, 55 RESERVED, 84 RESERVED, 113 RESERVED, 114 RESERVED, 116 RESERVED, 117 RESERVED, 118 RESERVED, 127 RESERVED, 129 RESERVED, 130 RESERVED, 131 RESERVED, 132 RESERVED, 133 RESERVED, 134 RESERVED, 135 RESERVED, 136 RESERVED, 137 RESERVED, 138 RESERVED, 141 RESERVED, 142 RESERVED
part C pins: 8 GND, 19 GND, 22 GND, 36 GND, 46 GND, 48 GND, 50 GND, 51 GND, 52 GND, 53 GND, 54 GND, 56 GND, 72 GND, 85 GND, 86 GND, 87 GND, 88 GND, 89 GND, 90 GND, 91 GND, 92 GND, 93 GND, 94 GND, 95 GND, 96 GND, 97 GND, 98 GND, 99 GND, 100 GND, 101 GND, 102 GND, 103 GND, 104 GND, 105 GND, 106 GND, 107 GND, 108 GND, 109 GND, 111 GND, 112 GND
part A text: POWER IN; LTE MODEM; POWER OUT; ON/OFF; USB; ADCs; USIM1; USIM2; USIM GND; COMMON; UART MAIN; ANT MAIN; PCM; AUDIO; UART DBG; I2C; CAM; SPI; SSP; OTHER